# EAGLE library part 00-6200-510 (library RobotX_Lib)
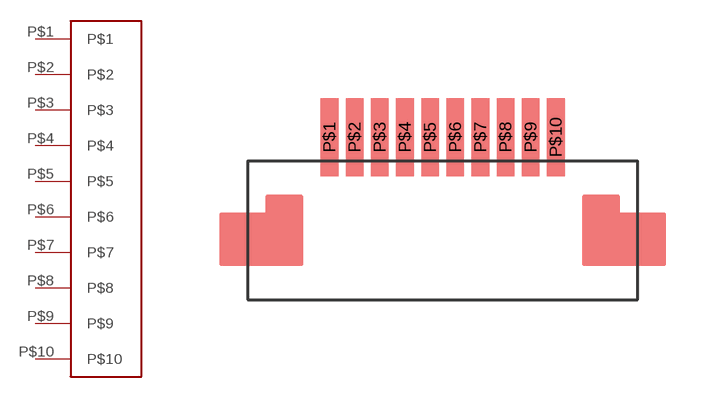
[diagram p0: symbol with the pads of 00-6200-510; footprint 00-6200-510]

Designator prefix -

## 00-6200-510  [00-6200-510]
P$1  P$1
P$2  P$2
P$3  P$3
P$4  P$4
P$5  P$5
P$6  P$6
P$7  P$7
P$8  P$8
P$9  P$9
P$10  P$10

## Footprint 00-6200-510 (pad centres in mm)
smd 0.7 x 3.1: P$1 0,0.95; P$2 1,0.95; P$3 2,0.95; P$4 3,0.95; P$5 4,0.95; P$6 5,0.95; P$7 6,0.95; P$8 7,0.95; P$9 8,0.95; P$10 9,0.95